# Altium footprint library 色环电阻.PcbLib: 1 footprints
Each footprint in its own frame and in the unit in brackets; x right, y up, seen from the top. Pads: shape width x height; smd on the part's side, far side on the other; paste and mask are expansions set on the pad; w line width, h text height; cw(c..) or ccw(c..) is an arc to the next point about the centre after c.
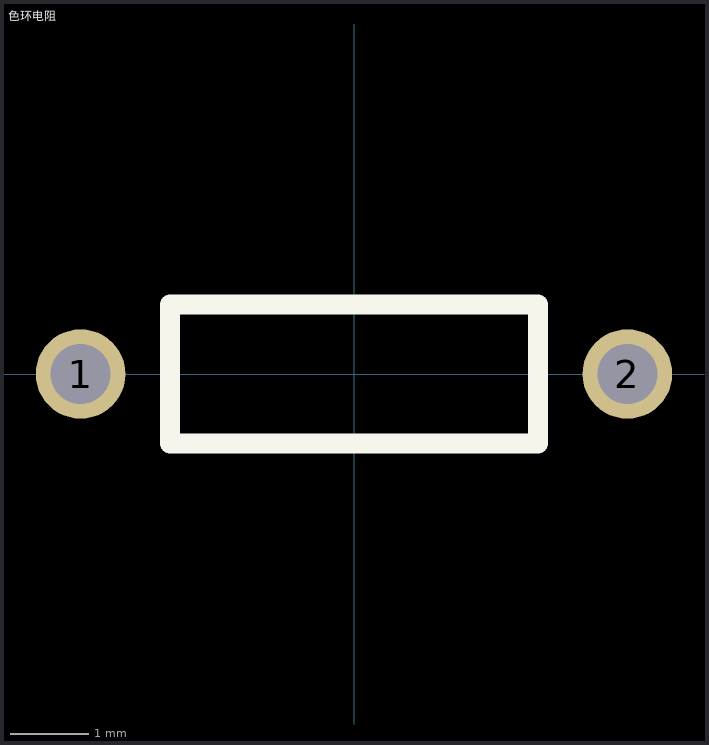
[diagram p0: the footprint, top view; thin cyan lines are the x and y axes]

## 色环电阻 [mil]
pads (2):
  round 45 hole 30 paste+0: 1(-137.5,0) 2(137.5,0)
Top Overlay:
  lines w10: -92.5,-35 -92.5,35 92.5,35 92.5,-35 -92.5,-35